# Altium footprint library SecureBot.PcbLib: 71 footprints (part 3 of 5)
Each footprint in its own frame and in the unit in brackets; x right, y up, seen from the top. Pads: shape width x height; smd on the part's side, far side on the other; paste and mask are expansions set on the pad; w line width, h text height; cw(c..) or ccw(c..) is an arc to the next point about the centre after c.
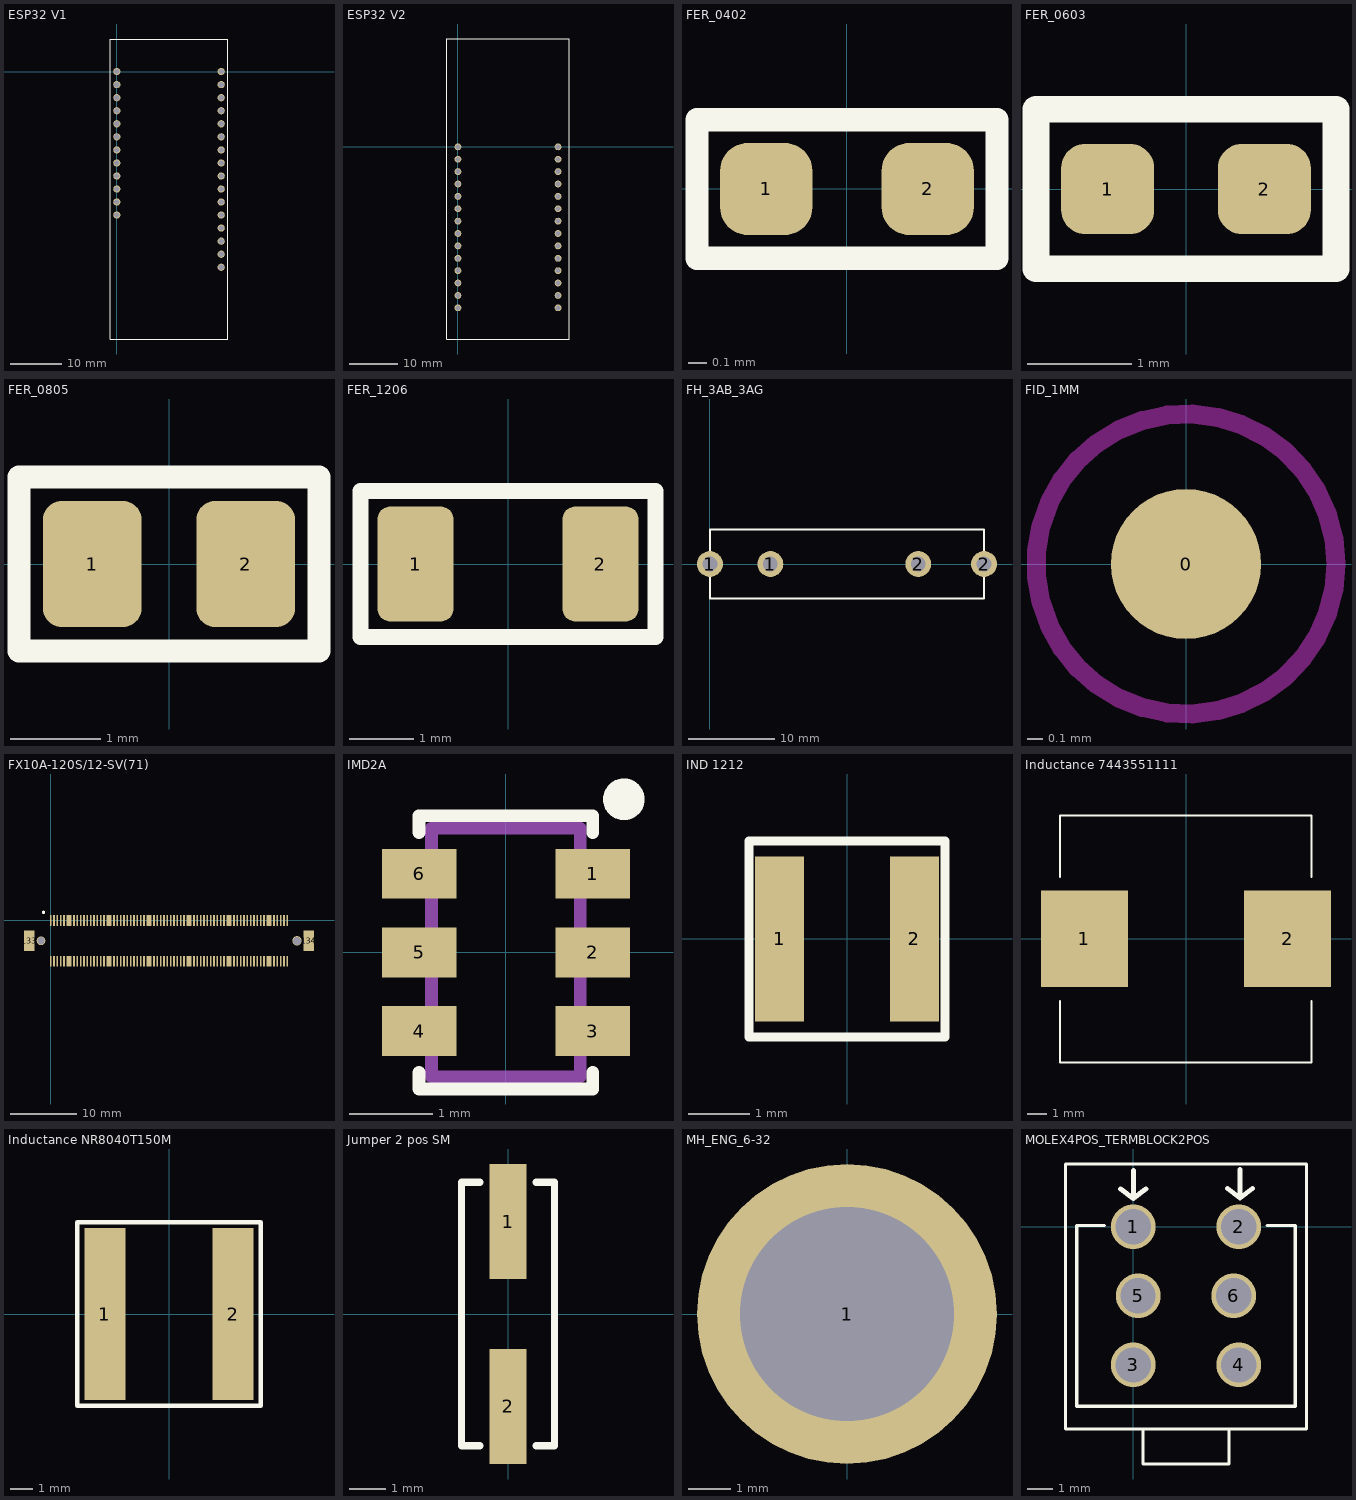
[diagram p2: the footprints below, top view; thin cyan lines are the x and y axes]

## ESP32 V1 [mil]
pads (28):
  round 55 hole 40: 1(0,0) 2(0,-100) 3(0,-200) 4(0,-300) 5(0,-400) 6(0,-500) 7(0,-600) 8(0,-700) 9(0,-800) 10(0,-900) 11(0,-1000) 12(0,-1100) 13(800,0) 14(800,-100) 15(800,-200) 16(800,-300) 17(800,-400) 18(800,-500) 19(800,-600) 20(800,-700) 21(800,-800) 22(800,-900) 23(800,-1000) 24(800,-1100) 25(800,-1200) 26(800,-1300) 27(800,-1400) 28(800,-1500)
Top Overlay:
  lines w7.87: -50,-2050 -50,250 850,250 850,-2050 -50,-2050

## ESP32 V2 [mil]
pads (28):
  round 55 hole 40: 1(0,0) 2(0,-100) 3(0,-200) 4(0,-300) 5(0,-400) 6(0,-500) 7(0,-600) 8(0,-700) 9(0,-800) 10(0,-900) 11(0,-1000) 12(0,-1100) 13(0,-1200) 14(0,-1300) 15(808.66,-1300) 16(808.66,-1200) 17(808.66,-1100) 18(808.66,-1000) 19(808.66,-900) 20(808.66,-800) 21(808.66,-700) 22(808.66,-600) 23(808.66,-500) 24(808.66,-400) 25(808.66,-300) 26(808.66,-200) 27(808.66,-100) 28(808.66,0)
Top Overlay:
  lines w7.87: -92.13,-1551.97 900.79,-1551.97 900.79,871.26 -92.13,871.26 -92.13,-1551.97

## FER_0402 [mil]
pads (2):
  rrect60% 20x20 smd: 1(-17.5,0) 2(17.5,0)
Top Overlay:
  lines w5: -32.5,-15 -32.5,15 32.5,15 32.5,-15 -32.5,-15
3D body "Ferrite0402.stp": height 20.08, standoff 0.39, extent -19.69,-10 19.69,9.69

## FER_0603 [mil]
pads (2):
  rrect53% 35x34 smd: 1(-29.5,0) 2(29.5,0)
Top Overlay:
  lines w10: -56.5,-30 -56.5,30 56.5,30 56.5,-30 -56.5,-30
3D body "User Library-FB_1608-1.STEP": height 31.5, standoff 0, extent -31.5,-16 31.5,15.5

## FER_0805 [mil]
pads (2):
  rrect37% 43x55 smd: 1(-33.5,0) 2(33.5,0)
Top Overlay:
  lines w10: -65.5,-38 -65.5,38 65.5,38 65.5,-38 -65.5,-38
3D body "User Library-FB_2012-1.STEP": height 33.46, standoff 0, extent -40.36,-24.6 38.37,24.61

## FER_1206 [mil]
pads (2):
  rrect34% 47x71 smd: 1(-57,0) 2(57,0)
Top Overlay:
  lines w10: -91,-45 91,-45 91,45 -91,45 -91,-45
3D body "ferrite1206.step": height 51.22, standoff -0.04, extent -62,-30.5 63.99,32.5

## FH_3AB_3AG [mm]
pads (4):
  round 3 hole 1.7: 1(0,0) 1(7,0) 2(24.13,0) 2(31.75,0)
Top Overlay:
  lines w0.254: 0,-1.35 0,-4 31.75,-4 31.75,-1.375 ; 0,1.425 0,4 31.75,4 31.75,1.525

## FID_1MM [mm] "Fiducial 1mm diameter - Exposed 2mm"
pads (1):
  round 1 all layers, no hole paste-1 mask+0.5: 0(0,0)
Keep-Out Layer:
  circle w0.127: c0,0 r1

## FX10A-120S/12-SV(71) [mm] "PIC32 DEV BOARD CONNECTOR"
pads (136):
  rect 0.25x1.6 smd: 1(0,0) 2(0,-6.1) 3(0.5,0) 4(0.5,-6.1) 5(1,0) 6(1,-6.1) 7(1.5,0) 8(1.5,-6.1) 9(2,0) 10(2,-6.1) 13(3.5,0) 14(3.5,-6.1) 15(4,0) 16(4,-6.1) 17(4.5,0) 18(4.5,-6.1) 19(5,0) 20(5,-6.1) 21(5.5,0) 22(5.5,-6.1) 23(6,0) 24(6,-6.1) 25(6.5,0) 26(6.5,-6.1) 27(7,0) 28(7,-6.1) 29(7.5,0) 30(7.5,-6.1) 31(8,0) 32(8,-6.1) 35(9.5,0) 36(9.5,-6.1) 37(10,0) 38(10,-6.1) 39(10.5,0) 40(10.5,-6.1) 41(11,0) 42(11,-6.1) 43(11.5,0) 44(11.5,-6.1) 45(12,0) 46(12,-6.1) 47(12.5,0) 48(12.5,-6.1) 49(13,0) 50(13,-6.1) 51(13.5,0) 52(13.5,-6.1) 53(14,0) 54(14,-6.1) 57(15.5,0) 58(15.5,-6.1) 59(16,0) 60(16,-6.1) 61(16.5,0) 62(16.5,-6.1) 63(17,0) 64(17,-6.1) 65(17.5,0) 66(17.5,-6.1) 67(18,0) 68(18,-6.1) 69(18.5,0) 70(18.5,-6.1) 71(19,0) 72(19,-6.1) 73(19.5,0) 74(19.5,-6.1) 75(20,0) 76(20,-6.1) 79(21.5,0) 80(21.5,-6.1) 81(22,0) 82(22,-6.1) 83(22.5,0) 84(22.5,-6.1) 85(23,0) 86(23,-6.1) 87(23.5,0) 88(23.5,-6.1) 89(24,0) 90(24,-6.1) 91(24.5,0) 92(24.5,-6.1) 93(25,0) 94(25,-6.1) 95(25.5,0) 96(25.5,-6.1) 97(26,0) 98(26,-6.1) 101(27.5,0) 102(27.5,-6.1) 103(28,0) 104(28,-6.1) 105(28.5,0) 106(28.5,-6.1) 107(29,0) 108(29,-6.1) 109(29.5,0) 110(29.5,-6.1) 111(30,0) 112(30,-6.1) 113(30.5,0) 114(30.5,-6.1) 115(31,0) 116(31,-6.1) 117(31.5,0) 118(31.5,-6.1) 119(32,0) 120(32,-6.1) 123(33.5,0) 124(33.5,-6.1) 125(34,0) 126(34,-6.1) 127(34.5,0) 128(34.5,-6.1) 129(35,0) 130(35,-6.1) 131(35.5,0) 132(35.5,-6.1)
  rect 0.7x1.6 smd: 11(2.75,0) 12(2.75,-6.1) 33(8.75,0) 34(8.75,-6.1) 55(14.75,0) 56(14.75,-6.1) 77(20.75,0) 78(20.75,-6.1) 99(26.75,0) 100(26.75,-6.1) 121(32.75,0) 122(32.75,-6.1)
  rect 1.6x3.1 smd: 133(-3.2,-3.05) 134(38.7,-3.05)
  round 1.3 hole 1.1: HL1(-1.45,-3.05)
  round 1.4 hole 1.2: HL2(36.95,-3.05)
Top Overlay:
  circle w0.254: c-1.075,1.225 r0.112

## IMD2A [mm]
pads (6):
  rect 0.9x0.6 smd: 1(1.05,0.95) 2(1.05,0) 3(1.05,-0.95) 4(-1.05,-0.95) 5(-1.05,0) 6(-1.05,0.95)
Top Overlay:
  circle w0.254: c1.425,1.85 r0.125
  lines w0.152: -1.05,-1.45 -1.05,-1.65 1.05,-1.65 1.05,-1.45 ; -1.05,1.45 -1.05,1.65 1.05,1.65 1.05,1.45
Mechanical 15:
  lines w0.152: -0.9,-1.5 -0.9,1.5 0.9,1.5 0.9,-1.5 -0.9,-1.5

## IND 1212 [mm]
pads (2):
  rect 0.8x2.7 smd: 1(-1.1,0) 2(1.1,0)
Top Overlay:
  lines w0.15: -1.6,-1.6 1.6,-1.6 1.6,1.6 -1.6,1.6 -1.6,-1.6

## Inductance 7443551111 [mm]
pads (2):
  rect 4.5x5 smd: 1(-5.25,0) 2(5.25,0)
Top Overlay:
  lines w0.102: -6.513,-3.206 -6.513,-6.4 6.487,-6.4 6.487,-3.206 ; -6.513,3.181 -6.513,6.375 6.487,6.375 6.487,3.181

## Inductance NR8040T150M [mm]
pads (2):
  rect 1.8x7.5 smd: 1(-2.8,0) 2(2.8,0)
Top Overlay:
  lines w0.2: -4,-4 4,-4 4,4 -4,4 -4,-4

## Jumper 2 pos SM [mm]
pads (2):
  rect 1x3.15 smd: 1(0,2.525) 2(0,-2.525)
Top Overlay:
  lines w0.2: -0.775,-3.6 -1.27,-3.6 -1.27,3.6 -0.775,3.6 ; 0.775,-3.6 1.27,-3.6 1.27,3.6 0.775,3.6

## MH_ENG_6-32 [mm] "Mounting hole - Imperial 6-32"
pads (1):
  round 7 hole 5: 1(0,0)

## MOLEX4POS_TERMBLOCK2POS [mm]
pads (6):
  round 1.78 hole 1.4: 1(0,0) 2(4.2,0) 3(0,-5.5) 4(4.2,-5.5) 5(0.195,-2.75) 6(4,-2.75)
Top Overlay:
  lines w0.127: -1.143,0.05 -2.255,0.05 -2.255,-7.15 6.45,-7.15 6.45,0.05 5.334,0.05 ; 0.381,-8.05 0.381,-9.45 ; 3.81,-8.05 3.81,-9.45 3.8,-9.45 0.4,-9.45 ; 0.381,-9.45 0.4,-9.45 ; 0.381,-9.45 0.4,-9.45 ; -2.7,-8.05 6.9,-8.05 6.9,2.5 -2.7,2.5 -2.7,-8.05
  lines w0.2: -0.5,1.5 0,1.125 ; 0,2.25 0,1.125 ; 0.5,1.5 0,1.125 ; 3.75,1.525 4.25,1.15 ; 4.25,2.275 4.25,1.15 ; 4.75,1.525 4.25,1.15